# Altium integrated library Holtek Semiconductor Remote RF TX.IntLib: 2 symbols
Pins are listed as number, name and electrical type; pins without a type are passive.

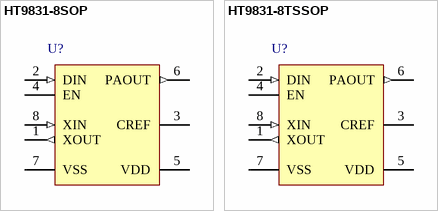
[diagram p0: symbols HT9831-8SOP to HT9831-8TSSOP]

## HT9831-8SOP
designator U?
315/433MHz ASK Transmitter, 8-Pin SOP; DatasheetVersion: Rev1.10, Sep-2010; PackageVersion: 25/05/2010; PackageReference: 8SOP; PackageDescription: 8-Pin Small Outline Package, 150mil Wide, 1.27 mm Pitch; Code_JEDEC: MS-012; Code_IPC: SOIC127P600-8; ComponentLink1Description: Manufacturer URL; ComponentLink1URL: http://www.holtek.com/; ComponentLink2Description: Datasheet; ComponentLink2URL: http://www.holtek.com/pdf/consumer/9831v110.pdf; ComponentLink3Description: Package Specification; ComponentLink3URL: http://www.holtek.com/english/literature/package.pdf
footprint 8SOP_N (SOIC, 8-Leads, Body 4.9x3.9mm, Pitch 1.27mm, IPC Medium Density)
footprint 8SOP_L (SOIC, 8-Leads, Body 4.9x3.9mm, Pitch 1.27mm, IPC High Density)
footprint 8SOP_M (SOIC, 8-Leads, Body 4.9x3.9mm, Pitch 1.27mm, IPC Low Density)
pins: 1 XOUT (out), 2 DIN (in), 3 CREF, 4 EN, 5 VDD (power), 6 PAOUT (out), 7 VSS (power), 8 XIN (in)

## HT9831-8TSSOP
designator U?
315/433MHz ASK Transmitter, 8-Pin TSSOP; DatasheetVersion: Rev1.10, Sep-2010; PackageVersion: 25/05/2010; PackageReference: 8TSSOP; PackageDescription: 8-Pin Thin Shrink Small Outline Package 0.65 mm Pitch; ComponentLink1Description: Manufacturer URL; ComponentLink1URL: http://www.holtek.com/; ComponentLink2Description: Datasheet; ComponentLink2URL: http://www.holtek.com/pdf/consumer/9831v110.pdf; ComponentLink3Description: Package Specification; ComponentLink3URL: http://www.holtek.com/english/literature/package.pdf
footprint 8TSSOP_N (TSOP, 8-Leads, Body 3x4.4mm, Pitch 0.65mm, IPC Medium Density)
footprint 8TSSOP_L (TSOP, 8-Leads, Body 3x4.4mm, Pitch 0.65mm, IPC High Density)
footprint 8TSSOP_M (TSOP, 8-Leads, Body 3x4.4mm, Pitch 0.65mm, IPC Low Density)
pins: 1 XOUT (out), 2 DIN (in), 3 CREF, 4 EN, 5 VDD (power), 6 PAOUT (out), 7 VSS (power), 8 XIN (in)